# Altium schematic symbol library AC1005.SchLib: 1 symbol
Pins are listed as number, name and electrical type; pins without a type are passive.

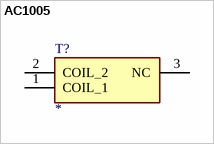
[diagram p0: symbol AC1005]

## AC1005
designator T?
Transformer; Manufacturer_Name: talema; Manufacturer_Part_Number: AC1005; Datasheet Link: http://www.talema.com/uploads/documents/product-datasheets/AC%20Series.pdf; Height: 24.05mm
footprint AC1005
pins: 1 COIL_1, 2 COIL_2, 3 NC